# Altium schematic symbol library LTC3780.SchLib: 1 symbol
Pins are listed as number, name and electrical type; pins without a type are passive.

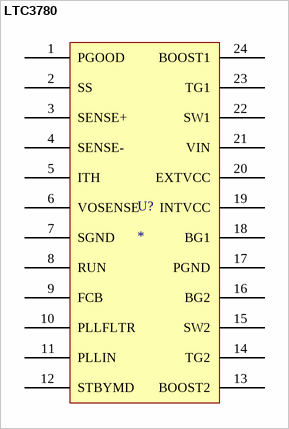
[diagram p0: symbol LTC3780]

## LTC3780
designator U?
LTC3780 - High Efficiency, Synchronous, 4-Switch Buck-Boost Controller; Manufacturer: Linear Technology; Part No.: LTC3780; Price Est.: $6.64; Vendor: Linear Technology
pins: 1 PGOOD, 2 SS, 3 SENSE+, 4 SENSE-, 5 ITH, 6 VOSENSE, 7 SGND, 8 RUN, 9 FCB, 10 PLLFLTR, 11 PLLIN, 12 STBYMD, 13 BOOST2, 14 TG2, 15 SW2, 16 BG2, 17 PGND, 18 BG1, 19 INTVCC, 20 EXTVCC, 21 VIN, 22 SW1, 23 TG1, 24 BOOST1